# EAGLE library part ATSAMG55J19 (library atmel)
To see a more detailed description of the pinout, see Product Dependencies in the G55 datasheet. http://www.atmel.com/Images/Atmel-11289-32-bit-Cortex-M4-Microcontroller-SAM-G55_Datasheet.pdf
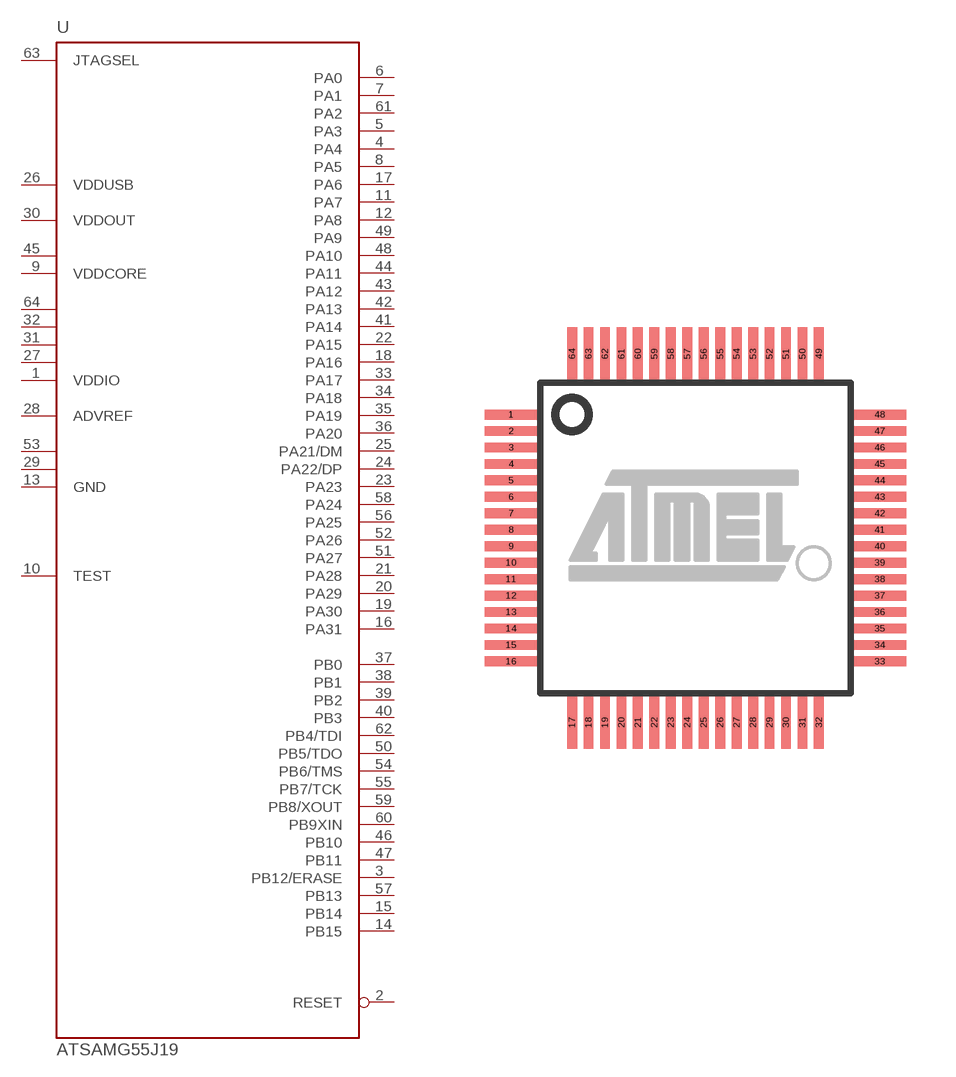
[diagram p91: symbol with the pads of SQFP-S-10X10-64; footprint SQFP-S-10X10-64]

Designator prefix U

## ATSAMG55J19  [SQFP-S-10X10-64]
1  VDDIO
2  RESET
3  PB12/ERASE  in
4  PA4
5  PA3
6  PA0
7  PA1
8  PA5
9  VDDCORE
10  TEST
11  PA7
12  PA8
13  GND
14  PB15  in
15  PB14  in
16  PA31
17  PA6
18  PA16
19  PA30
20  PA29
21  PA28
22  PA15
23  PA23  out
24  PA22/DP  out
25  PA21/DM  out
26  VDDUSB
27  VDDIO
28  ADVREF
29  GND
30  VDDOUT
31  VDDIO
32  VDDIO
33  PA17  out
34  PA18  out
35  PA19  out
36  PA20  out
37  PB0
38  PB1
39  PB2
40  PB3
41  PA14
42  PA13
43  PA12
44  PA11
45  VDDCORE
46  PB10  in
47  PB11  in
48  PA10
49  PA9
50  PB5/TDO
51  PA27
52  PA26
53  GND
54  PB6/TMS
55  PB7/TCK
56  PA25
57  PB13  in
58  PA24  out
59  PB8/XOUT
60  PB9XIN  in
61  PA2
62  PB4/TDI
63  JTAGSEL  in
64  VDDIO

## Footprint SQFP-S-10X10-64 (pad centres in mm)
QFP64 shrink quad flat pack, square
smd 1.6 x 0.3: 1 -5.6,3.75; 2 -5.6,3.25; 3 -5.6,2.75; 4 -5.6,2.25; 5 -5.6,1.75; 6 -5.6,1.25; 7 -5.6,0.75; 8 -5.6,0.25; 9 -5.6,-0.25; 10 -5.6,-0.75; 11 -5.6,-1.25; 12 -5.6,-1.75; 13 -5.6,-2.25; 14 -5.6,-2.75; 15 -5.6,-3.25; 16 -5.6,-3.75; 33 5.6,-3.75; 34 5.6,-3.25; 35 5.6,-2.75; 36 5.6,-2.25; 37 5.6,-1.75; 38 5.6,-1.25; 39 5.6,-0.75; 40 5.6,-0.25; 41 5.6,0.25; 42 5.6,0.75; 43 5.6,1.25; 44 5.6,1.75; 45 5.6,2.25; 46 5.6,2.75; 47 5.6,3.25; 48 5.6,3.75
smd 0.3 x 1.6: 17 -3.75,-5.6; 18 -3.25,-5.6; 19 -2.75,-5.6; 20 -2.25,-5.6; 21 -1.75,-5.6; 22 -1.25,-5.6; 23 -0.75,-5.6; 24 -0.25,-5.6; 25 0.25,-5.6; 26 0.75,-5.6; 27 1.25,-5.6; 28 1.75,-5.6; 29 2.25,-5.6; 30 2.75,-5.6; 31 3.25,-5.6; 32 3.75,-5.6; 49 3.75,5.6; 50 3.25,5.6; 51 2.75,5.6; 52 2.25,5.6; 53 1.75,5.6; 54 1.25,5.6; 55 0.75,5.6; 56 0.25,5.6; 57 -0.25,5.6; 58 -0.75,5.6; 59 -1.25,5.6; 60 -1.75,5.6; 61 -2.25,5.6; 62 -2.75,5.6; 63 -3.25,5.6; 64 -3.75,5.6